# Altium footprint library 器件封装.PCBLIB: 225 footprints (part 13 of 15)
Each footprint in its own frame and in the unit in brackets; x right, y up, seen from the top. Pads: shape width x height; smd on the part's side, far side on the other; paste and mask are expansions set on the pad; w line width, h text height; cw(c..) or ccw(c..) is an arc to the next point about the centre after c.
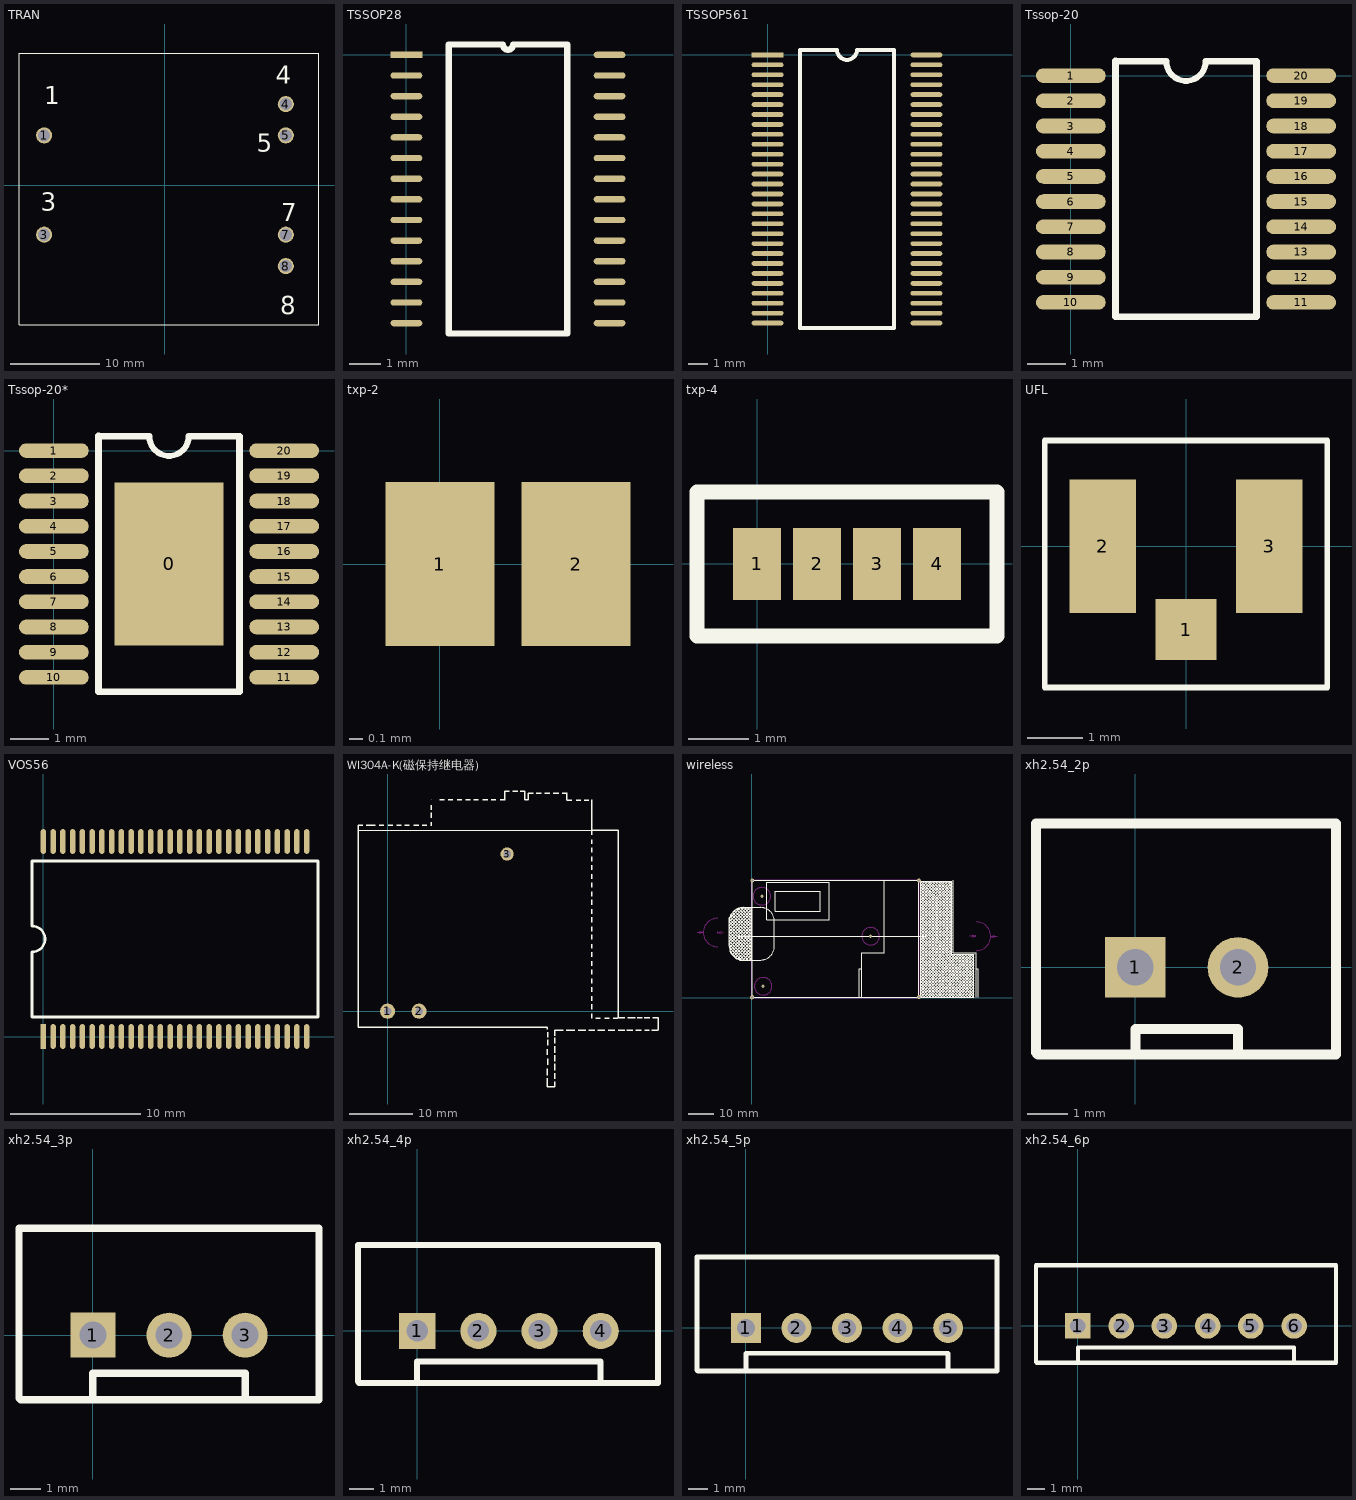
[diagram p12: the footprints below, top view; thin cyan lines are the x and y axes]

## TRAN [mm]
pads (6):
  round 1.8 hole 1.35: 1(-13.5,5.55) 3(-13.5,-5.55) 4(13.5,9.05) 5(13.5,5.55) 7(13.5,-5.55) 8(13.5,-9.05)
TopOverlay:
  lines w0.025: -16.314,-15.59 17.214,-15.59 17.214,14.71 -16.314,14.71 -16.314,-15.59
  text "8" at 12.896,-14.447 h2
  text "7" at 13.023,-4.033 h2
  text "5" at 10.229,3.714 h2
  text "4" at 12.388,11.334 h2
  text "3" at -13.901,-2.89 h2
  text "1" at -13.52,9.048 h2

## TSSOP28 [mm]
pads (28):
  rect 1x0.2 smd: 1(0,0)
  oval 1x0.2 smd: 2(0,-0.65) 3(0,-1.3) 4(0,-1.95) 5(0,-2.6) 6(0,-3.25) 7(0,-3.9) 8(0,-4.55) 9(0,-5.2) 10(0,-5.85) 11(0,-6.5) 12(0,-7.15) 13(0,-7.8) 14(0,-8.45) 15(6.4,-8.45) 16(6.4,-7.8) 17(6.4,-7.15) 18(6.4,-6.5) 19(6.4,-5.85) 20(6.4,-5.2) 21(6.4,-4.55) 22(6.4,-3.9) 23(6.4,-3.25) 24(6.4,-2.6) 25(6.4,-1.95) 26(6.4,-1.3) 27(6.4,-0.65) 28(6.4,0)
TopOverlay:
  lines w0.2: 1.335,-8.775 5.065,-8.775 5.065,0.325 3.363,0.325 cw(c3.2,0.325) 3.037,0.325 1.335,0.325 1.335,-8.775

## TSSOP561 [mm]
pads (56):
  rect 1.6x0.24 smd: 1(0,0)
  oval 1.6x0.24 smd: 2(0,-0.5) 3(0,-1) 4(0,-1.5) 5(0,-2) 6(0,-2.5) 7(0,-3) 8(0,-3.5) 9(0,-4) 10(0,-4.5) 11(0,-5) 12(0,-5.5) 13(0,-6) 14(0,-6.5) 15(0,-7) 16(0,-7.5) 17(0,-8) 18(0,-8.5) 19(0,-9) 20(0,-9.5) 21(0,-10) 22(0,-10.5) 23(0,-11) 24(0,-11.5) 25(0,-12) 26(0,-12.5) 27(0,-13) 28(0,-13.5) 29(8,-13.5) 30(8,-13) 31(8,-12.5) 32(8,-12) 33(8,-11.5) 34(8,-11) 35(8,-10.5) 36(8,-10) 37(8,-9.5) 38(8,-9) 39(8,-8.5) 40(8,-8) 41(8,-7.5) 42(8,-7) 43(8,-6.5) 44(8,-6) 45(8,-5.5) 46(8,-5) 47(8,-4.5) 48(8,-4) 49(8,-3.5) 50(8,-3) 51(8,-2.5) 52(8,-2) 53(8,-1.5) 54(8,-1) 55(8,-0.5) 56(8,0)
TopOverlay:
  lines w0.2: 3.49,0.25 1.635,0.25 1.635,-13.75 6.365,-13.75 6.365,0.25 4.5,0.25 cw(c4,0.25) 3.5,0.25

## Tssop-20 [mm]
pads (20):
  oval 1.8x0.38 smd: 1(0,0) 2(0,-0.65) 3(0,-1.3) 4(0,-1.95) 5(0,-2.6) 6(0,-3.25) 7(0,-3.9) 8(0,-4.55) 9(0,-5.2) 10(0,-5.85) 11(5.94,-5.85) 12(5.94,-5.2) 13(5.94,-4.55) 14(5.94,-3.9) 15(5.94,-3.25) 16(5.94,-2.6) 17(5.94,-1.95) 18(5.94,-1.3) 19(5.94,-0.65) 20(5.94,0)
TopOverlay:
  lines w0.154: 2.462,0.373 ccw(c2.97,0.373) 3.478,0.373
  lines w0.17: 1.15,0.38 1.15,-6.223 4.79,-6.223 4.79,0.373 3.478,0.373 ; 1.17,0.373 2.462,0.373

## Tssop-20* [mm]
pads (21):
  rect 2.8x4.2 smd: 0(2.97,-2.925)
  oval 1.8x0.38 smd: 1(0,0) 2(0,-0.65) 3(0,-1.3) 4(0,-1.95) 5(0,-2.6) 6(0,-3.25) 7(0,-3.9) 8(0,-4.55) 9(0,-5.2) 10(0,-5.85) 11(5.94,-5.85) 12(5.94,-5.2) 13(5.94,-4.55) 14(5.94,-3.9) 15(5.94,-3.25) 16(5.94,-2.6) 17(5.94,-1.95) 18(5.94,-1.3) 19(5.94,-0.65) 20(5.94,0)
TopOverlay:
  lines w0.154: 2.462,0.373 ccw(c2.97,0.373) 3.478,0.373
  lines w0.17: 1.15,0.38 1.15,-6.223 4.79,-6.223 4.79,0.373 3.478,0.373 ; 1.17,0.373 2.462,0.373

## txp-2 [mm]
pads (2):
  rect 0.8x1.2 smd: 1(0,0) 2(1,0)

## txp-4 [mm]
pads (4):
  rect 0.8x1.2 smd: 1(0,0) 2(1,0) 3(2,0) 4(3,0)
TopOverlay:
  lines w0.254: -1,-1.2 -1,1.2 4,1.2 4,-1.2 -1,-1.2

## UFL [mm]
pads (3):
  rect 1.1x1.1 smd: 1(0,-1.5)
  rect 1.2x2.4 smd: 2(-1.5,0) 3(1.5,0)
TopOverlay:
  lines w0.1: -2.54,-2.54 2.54,-2.54 2.54,1.905 -2.54,1.905 -2.54,-2.54

## VOS56 [mm]
pads (56):
  rect 0.42x1.9 smd: 1(0,0)
  oval 0.42x1.9 smd: 2(0.75,0) 3(1.5,0) 4(2.25,0) 5(3,0) 6(3.75,0) 7(4.5,0) 8(5.25,0) 9(6,0) 10(6.75,0) 11(7.5,0) 12(8.25,0) 13(9,0) 14(9.75,0) 15(10.5,0) 16(11.25,0) 17(12,0) 18(12.75,0) 19(13.5,0) 20(14.25,0) 21(15,0) 22(15.75,0) 23(16.5,0) 24(17.25,0) 25(18,0) 26(18.75,0) 27(19.5,0) 28(20.25,0) 29(20.25,15) 30(19.5,15) 31(18.75,15) 32(18,15) 33(17.25,15) 34(16.5,15) 35(15.75,15) 36(15,15) 37(14.25,15) 38(13.5,15) 39(12.75,15) 40(12,15) 41(11.25,15) 42(10.5,15) 43(9.75,15) 44(9,15) 45(8.25,15) 46(7.5,15) 47(6.75,15) 48(6,15) 49(5.25,15) 50(4.5,15) 51(3.75,15) 52(3,15) 53(2.25,15) 54(1.5,15) 55(0.75,15) 56(0,15)
TopOverlay:
  lines w0.2: -0.875,1.5 -0.875,6.5 ccw(c-0.875,7.5) -0.875,8.5 -0.875,13.5 21.125,13.5 21.125,1.5 -0.875,1.5

## WI304A-K(磁保持继电器) [mm]
pads (3):
  round 2.4 hole 1.2: 1(0,0) 2(5,0)
  round 2.1 hole 1.2: 3(19,25)
TopOverlay:
  lines w0.2: -4.71,28.84 -4.71,29.54 -3.96,29.54 ; -3.37,29.54 -2.67,29.54 ; -2.69,29.54 -1.94,29.54 ; -1.35,29.54 -0.65,29.54 ; 0.08,29.54 0.83,29.54 ; 1.42,29.54 2.17,29.54 ; 2.76,29.54 3.46,29.54 ; 4.19,29.54 4.94,29.54 ; 5.53,29.54 6.23,29.54 ; 6.94,33.6 6.96,33.62 ; 6.96,29.52 6.96,30.02 ; 6.96,30.79 6.96,31.54 ; 6.96,32.04 6.96,32.79 ; 8.28,33.6 9.03,33.6 ; 9.62,33.6 10.32,33.6 ; 11.05,33.6 11.8,33.6 ; 12.39,33.6 13.14,33.6 ; 13.73,33.6 14.43,33.6 ; 15.16,33.6 15.91,33.6 ; 16.5,33.6 17.2,33.6 ; 17.93,33.6 18.68,33.6 ; 18.62,33.6 18.62,34.98 19.37,34.98 ; 19.91,34.98 20.66,34.98 ; 21.08,34.98 21.78,34.98 21.78,33.6 22.38,33.6 22.38,34.67 23.13,34.67 ; 21.25,34.98 21.77,34.98 ; 23.67,34.67 24.42,34.67 ; 25.01,34.67 25.71,34.67 ; 25.05,34.67 25.75,34.67 ; 25.4,-10.17 25.4,-9.11 ; 25.42,-10.68 25.42,-12.01 26.59,-12.01 ; 25.42,-6.96 25.42,-6.08 ; 25.42,-2.9 25.42,-2.51 -4.7,-2.51 ; 25.43,-5.39 25.43,-4.56 ; 25.43,-4.15 25.43,-3.36 ; 25.47,-8.53 25.47,-7.52 ; 26.34,34.67 27.09,34.67 ; 26.44,34.67 27.19,34.67 ; 26.6,-3.01 27.92,-3.01 ; 26.61,-12.01 26.61,-11.22 ; 26.61,-10.74 26.61,-9.84 ; 26.61,-9.39 26.61,-8.36 ; 26.61,-7.92 26.61,-7.04 ; 26.61,-6.64 26.61,-5.58 ; 26.61,-5.12 26.61,-4.22 ; 26.61,-3.88 26.61,-3.03 ; 27.78,34.67 28.53,34.67 ; 28.44,-3.01 29.75,-3.01 ; 28.5,33.58 29.25,33.58 ; 28.52,33.6 28.52,34.67 ; 29.98,33.58 30.68,33.58 ; 30.3,-3.01 31.52,-3.01 ; 31.27,33.58 32.02,33.58 ; 31.99,-3.01 32.96,-3.01 ; 32.5,-1.1 32.5,-0.4 ; 32.5,0.33 32.5,1.08 ; 32.5,1.67 32.5,2.37 ; 32.5,3.1 32.5,3.85 ; 32.5,4.44 32.5,5.14 ; 32.5,5.87 32.5,6.62 ; 32.5,7.21 32.5,7.91 ; 32.5,8.64 32.5,9.39 ; 32.5,9.98 32.5,10.68 ; 32.5,11.41 32.5,12.16 ; 32.5,12.75 32.5,13.45 ; 32.5,14.18 32.5,14.93 ; 32.5,15.52 32.5,16.22 ; 32.5,16.95 32.5,17.7 ; 32.5,18.29 32.5,18.99 ; 32.5,19.72 32.5,20.47 ; 32.5,21.06 32.5,21.76 ; 32.5,22.49 32.5,23.24 ; 32.5,23.83 32.5,24.53 ; 32.5,25.26 32.5,26.01 ; 32.5,26.6 32.5,27.3 ; 32.5,28.03 32.5,28.78 ; 32.5,28.24 32.5,28.99 ; 32.5,28.73 -4.7,28.75 ; 32.5,29.58 32.5,30.33 ; 32.5,30.18 32.5,30.93 ; 32.5,31.06 32.5,31.76 ; 32.5,31.52 32.5,32.22 ; 32.5,32.35 32.5,33.1 ; 32.5,33.6 32.5,28.75 36.7,28.75 36.7,-1.01 37.68,-1.01 ; 33.09,-1.1 33.84,-1.1 ; 33.38,-3.01 34.52,-3.01 ; 34.57,-1.1 35.27,-1.1 ; 35.08,-3.01 36.16,-3.01 ; 35.86,-1.1 36.61,-1.1 ; 36.66,-3.01 37.69,-3.01 ; 38.05,-3.01 39.01,-3.01 ; 38.16,-1.01 39.38,-1.01 ; 39.46,-3.01 40.35,-3.01 ; 39.73,-1.01 40.49,-1.01 ; 40.85,-1.01 41.65,-1.01 ; 40.87,-3.01 41.57,-3.01 ; 42.03,-3.01 42.99,-3.01 ; 42.17,-1.01 43,-1.01 43,-3.01 ; -4.7,-2.51 -4.7,28.75 ; -4.7,-2.51 -4.7,28.75

## wireless [mil]
pads (5):
  round 60 hole 30: 1(0,0) 1(7.87,7.87) 2(2629.92,7.87) 3(2629.92,1842.52) 4(7.87,1842.52)
via 177.16,177.16 diameter 50 hole 28
via 157.48,1594.49 diameter 50 hole 28
via 1870.08,964.57 diameter 50 hole 28
TopOverlay:
  drawing of 223 lines, arcs and shapes, not listed
KeepOutLayer:
  circle w10: c177.16,177.16 r137.79
  circle w10: c157.48,1594.49 r137.79
  circle w10: c1870.08,964.57 r137.79
  lines w10: -863.76,1029.31 -763.78,1027.56 ; -824.12,1008.62 -763.78,1027.56 ; -823.42,1048.61 -763.78,1027.56 ; -763.96,1017.56 -763.6,1037.56 ; -539.54,1013.62 -539.19,1033.62 ; -539.37,799.21 cw(c-539.37,1023.62) -539.37,1248.03 ; -479.73,1002.57 -539.37,1023.62 ; -479.03,1042.57 -539.37,1023.62 ; -439.38,1021.87 -539.37,1023.62 ; 3427.57,970.2 3527.56,968.5 ; 3467.23,949.52 3527.56,968.5 ; 3467.91,989.52 3527.56,968.5 ; 3527.39,958.5 3527.73,978.5 ; 3535.43,740.16 ccw(c3535.43,964.57) 3535.43,1188.98 ; 3759.67,954.57 3760.01,974.57 ; 3819.49,943.55 3759.84,964.57 ; 3820.17,983.55 3759.84,964.57 ; 3859.83,962.87 3759.84,964.57 ; 0,0 2637.8,0 2637.8,1850.39 0,1850.39 0,0
  text "232.317 (mil)" at 3290.42,828.54 h60
  text "224.444 (mil)" at -1009.93,887.89 h60

## xh2.54_2p [mm]
pads (2):
  rect 1.5x1.5 hole 0.9: 1(0,0)
  round 1.5 hole 0.9: 2(2.54,0)
TopOverlay:
  lines w0.25: 0,-2.16 0,-1.524 2.54,-1.524 2.54,-2.16 ; -2.46,3.565 -0.08,3.565 4.965,3.565 4.965,-2.16 -2.41,-2.16 -2.46,-2.11 -2.46,3.565 ; -2.46,3.565 -2.46,3.565

## xh2.54_3p [mm]
pads (3):
  rect 1.5x1.5 hole 0.9: 1(0,0)
  round 1.5 hole 0.9: 2(2.54,0) 3(5.08,0)
TopOverlay:
  lines w0.25: 0,-2.16 0,-1.27 5.08,-1.27 5.08,-2.16 ; -2.46,3.565 -2.46,-2.11 -2.41,-2.16 7.54,-2.16 7.54,3.565 -0.08,3.565 -2.46,3.565 ; -2.46,3.565 -2.46,3.565

## xh2.54_4p [mm]
pads (4):
  rect 1.5x1.5 hole 0.9: 1(0,0)
  round 1.5 hole 0.9: 2(2.54,0) 3(5.08,0) 4(7.62,0)
TopOverlay:
  lines w0.25: 0,-2.16 0,-1.27 7.62,-1.27 7.62,-2.16 ; -2.46,3.565 -2.46,-2.11 -2.41,-2.16 10,-2.16 10,3.565 -0.08,3.565 -2.46,3.565 ; -2.46,3.565 -2.46,3.565

## xh2.54_5p [mm]
pads (5):
  rect 1.5x1.5 hole 0.9: 1(0,0)
  round 1.5 hole 0.9: 2(2.54,0) 3(5.08,0) 4(7.62,0) 5(10.16,0)
TopOverlay:
  lines w0.25: 0,-2.16 0,-1.27 10.16,-1.27 10.16,-2.16 ; -2.46,3.565 -2.46,-2.11 -2.41,-2.16 12.62,-2.16 12.62,3.565 -0.08,3.565 -2.46,3.565 ; -2.46,3.565 -2.46,3.565

## xh2.54_6p [mm]
pads (6):
  rect 1.5x1.5 hole 0.9: 1(0,0)
  round 1.5 hole 0.9: 2(2.54,0) 3(5.08,0) 4(7.62,0) 5(10.16,0) 6(12.7,0)
TopOverlay:
  lines w0.25: 0,-2.16 0,-1.27 12.7,-1.27 12.7,-2.16 ; -2.46,3.565 -2.46,-2.11 -2.41,-2.16 15.16,-2.16 15.16,3.565 -0.08,3.565 -2.46,3.565 ; -2.46,3.565 -2.46,3.565